# EAGLE library part TP4056 (library v-reg-3)
One cell lithium battery (li-ion, li-pol) charger 4.2V with programmable output current.
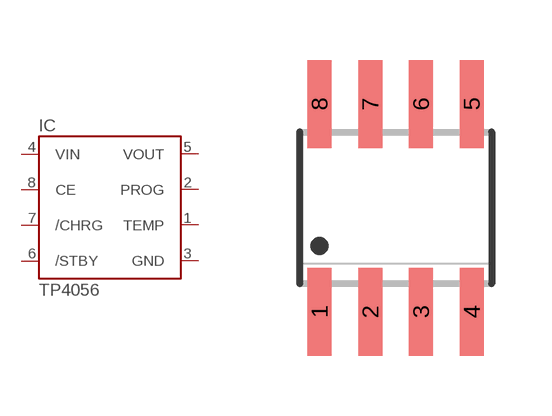
[diagram p33: symbol with the pads of SO08; footprint SO08]

Designator prefix IC

## TP4056  [SO08]
1  TEMP  pas
2  PROG  pas
3  GND  pwr
4  VIN  pwr
5  VOUT  out
6  /STBY  pas
7  /CHRG  pas
8  CE  in

## Footprint SO08 (pad centres in mm)
SMALL OUTLINE INTEGRATED CIRCUIT body 3.9 mm/JEDEC MS-012AA
smd 0.6 x 2.2: 1 -1.905,-2.6; 2 -0.635,-2.6; 3 0.635,-2.6; 4 1.905,-2.6; 5 1.905,2.6; 6 0.635,2.6; 7 -0.635,2.6; 8 -1.905,2.6